# EAGLE library part 74*78 (library 74ttl-din)
Dual J-K FLIP FLOP, preset, common clock and common clear
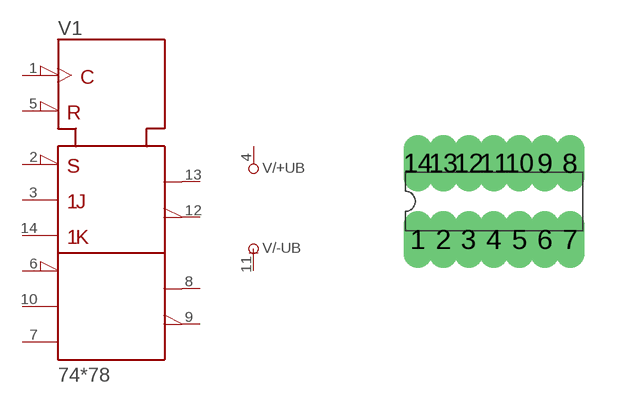
[diagram p25: symbol with the pads of DIL14; footprint DIL14]

Designator prefix V; gates /+UB=+UB /-UB=-UB 1=78

## 7478N  [DIL14]
1  1:CLK  in
2  1:!1PRE  in
3  1:1J  in
4  /+UB:+UB  pwr
5  1:!CLR  in
6  1:!2PRE  in
7  1:2K  in
8  1:2Q  out
9  1:!2Q  out
10  1:2J  in
11  /-UB:-UB  pwr
12  1:!1Q  out
13  1:1Q  out
14  1:1K  in

## Footprint DIL14 (pad centres in mm)
Dual In Line Package
drill 0.203 long: 1 -1.905,-0.953; 2 -1.27,-0.953; 3 -0.635,-0.953; 4 0,-0.953; 5 0.635,-0.953; 6 1.27,-0.953; 7 1.905,-0.953; 8 1.905,0.953; 9 1.27,0.953; 10 0.635,0.953; 11 0,0.953; 12 -0.635,0.953; 13 -1.27,0.953; 14 -1.905,0.953